# Altium schematic symbol library SCH - POWER - LINEAR VREG - TI TPS72710DSE.SchLib: 1 symbol
Pins are listed as number, name and electrical type; pins without a type are passive.

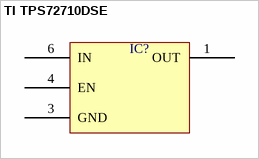
[diagram p0: symbol TI TPS72710DSE]

## TI TPS72710DSE
designator IC?  (value not drawn)
pins: 1 OUT, 3 GND, 4 EN, 6 IN